# Altium footprint library Wurth_Elektronik_Passive_rev16a.PCBLIB: 810 footprints (part 17 of 51)
Each footprint in its own frame and in the unit in brackets; x right, y up, seen from the top. Pads: shape width x height; smd on the part's side, far side on the other; paste and mask are expansions set on the pad; w line width, h text height; cw(c..) or ccw(c..) is an arc to the next point about the centre after c.
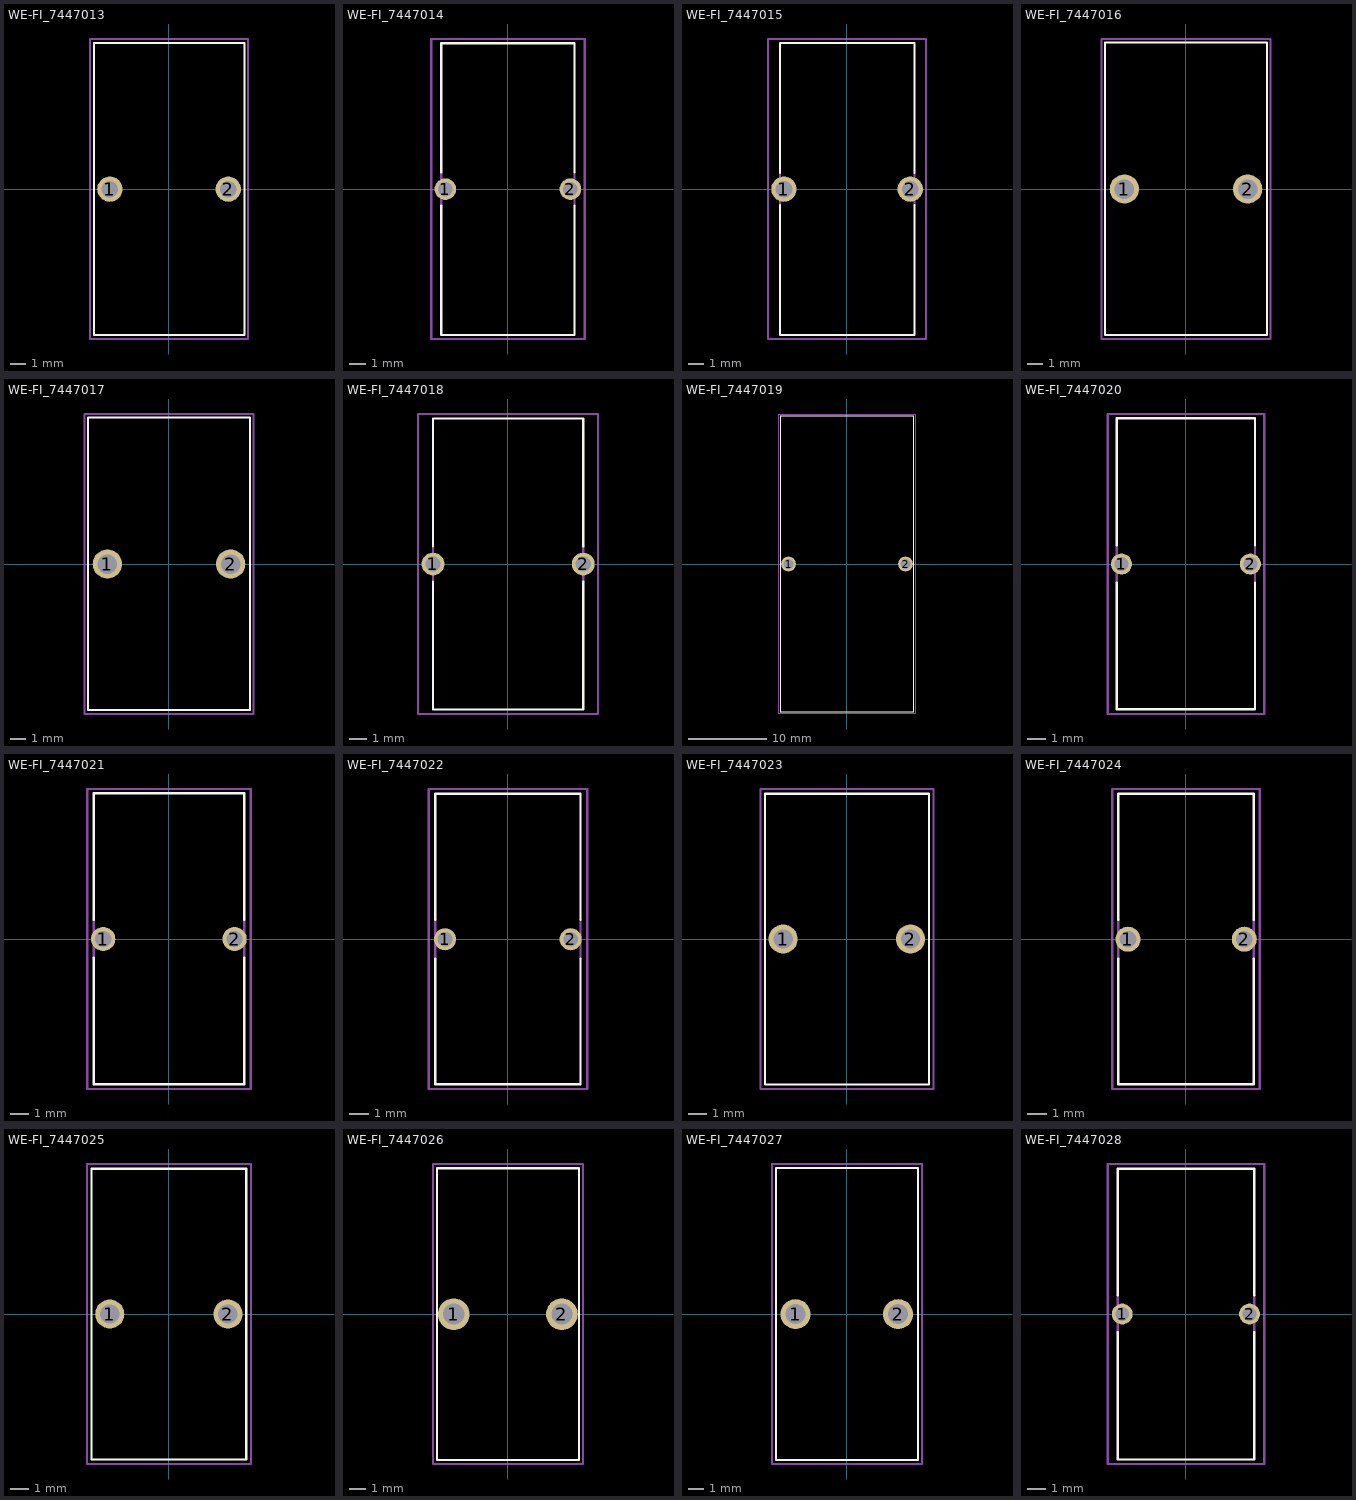
[diagram p16: the footprints below, top view; thin cyan lines are the x and y axes]

## WE-FI_7447013 [mil]
pads (2):
  round 63 hole 42: 1(-147.64,0) 2(148,0)
Top Overlay:
  lines w5: -187.01,-364.17 -187.01,365 188,365 188,-364.17 -187.01,-364.17
Mechanical 2:
  text ">NAME" at -187.01,375 h77.5
Mechanical 4:
  text ">VALUE" at -187.01,-424.02 h77.5
Mechanical 27:
  lines w5: -196.85,-374.02 -196.85,375 197,375 197,-374.02 -196.85,-374.02

## WE-FI_7447014 [mil]
pads (2):
  round 51 hole 34: 1(-147.64,0) 2(148,0)
Top Overlay:
  lines w5: -157.48,-39.37 -157.48,-344.49 158,-344.49 158,-39.37 ; -157.48,40 -157.48,345 158,345 158,40
Mechanical 2:
  text ">NAME" at -157.48,355 h77.5
Mechanical 4:
  text ">VALUE" at -157.48,-404.33 h77.5
Mechanical 16:
  lines w5: -157.48,-39.37 -157.48,40 ; 158,-39.37 158,40
Mechanical 27:
  lines w5: -181.1,-354.33 -181.1,355 182,355 182,-354.33 -181.1,-354.33

## WE-FI_7447015 [mil]
pads (2):
  round 63 hole 42: 1(-157.48,0) 2(158,0)
Top Overlay:
  lines w5: -167.32,-39.37 -167.32,-364.17 168,-364.17 168,-39.37 ; -167.32,40 -167.32,365 168,365 168,40
Mechanical 2:
  text ">NAME" at -157.48,375 h77.5
Mechanical 4:
  text ">VALUE" at -157.48,-424.02 h77.5
Mechanical 16:
  lines w5: -167.32,-39.37 -167.32,40 ; 168,-39.37 168,40
Mechanical 27:
  lines w5: -196.85,-374.02 -196.85,375 197,375 197,-374.02 -196.85,-374.02

## WE-FI_7447016 [mil]
pads (2):
  round 75 hole 50: 1(-157.48,0) 2(158,0)
Top Overlay:
  lines w5: -206.69,-374.02 -206.69,375 207,375 207,-374.02 -206.69,-374.02
Mechanical 2:
  text ">NAME" at -206.69,384 h77.5
Mechanical 4:
  text ">VALUE" at -206.69,-433.86 h77.5
Mechanical 27:
  lines w5: -216.54,-383.86 -216.54,384 217,384 217,-383.86 -216.54,-383.86

## WE-FI_7447017 [mil]
pads (2):
  round 75 hole 50: 1(-157.48,0) 2(158,0)
Top Overlay:
  lines w5: -206.69,-374.02 -206.69,375 207,375 207,-374.02 -206.69,-374.02
Mechanical 2:
  text ">NAME" at -206.69,384 h77.5
Mechanical 4:
  text ">VALUE" at -206.69,-433.86 h77.5
Mechanical 27:
  lines w5: -216.54,-383.86 -216.54,384 217,384 217,-383.86 -216.54,-383.86

## WE-FI_7447018 [mil]
pads (2):
  round 51 hole 34: 1(-167.32,0) 2(168,0)
Top Overlay:
  lines w5: -167.32,-39.37 -167.32,-324.8 168,-324.8 168,-39.37 ; -167.32,40 -167.32,325 168,325 168,40
Mechanical 2:
  text ">NAME" at -167.32,335 h77.5
Mechanical 4:
  text ">VALUE" at -167.32,-384.65 h77.5
Mechanical 16:
  lines w5: -167.32,-39.37 -167.32,40 ; 168,-39.37 168,40
Mechanical 27:
  lines w5: -200.79,-334.65 -200.79,335 201,335 201,-334.65 -200.79,-334.65

## WE-FI_7447019 [mil]
pads (2):
  round 75 hole 50: 1(-295.28,0) 2(296,0)
Top Overlay:
  lines w5: -334.65,-748.03 -334.65,749 335,749 335,-748.03 -334.65,-748.03
Mechanical 2:
  text ">NAME" at -334.65,758 h77.5
Mechanical 4:
  text ">VALUE" at -334.65,-807.87 h77.5
Mechanical 27:
  lines w5: -344.49,-757.87 -344.49,758 345,758 345,-757.87 -344.49,-757.87

## WE-FI_7447020 [mil]
pads (2):
  round 45 hole 30: 1(-137.8,0) 2(138,0)
Top Overlay:
  lines w5: -147.64,-39.37 -147.64,-311.02 148,-311.02 148,-39.37 ; -147.64,40 -147.64,312 148,312 148,40
Mechanical 2:
  text ">NAME" at -147.64,321 h77.5
Mechanical 4:
  text ">VALUE" at -147.64,-370.87 h77.5
Mechanical 16:
  lines w5: -147.64,-39.37 -147.64,40 ; 148,-39.37 148,40
Mechanical 27:
  lines w5: -167.32,-320.87 -167.32,321 168,321 168,-320.87 -167.32,-320.87

## WE-FI_7447021 [mil]
pads (2):
  round 51 hole 34: 1(-137.8,0) 2(138,0)
Top Overlay:
  lines w5: -157.48,-39.37 -157.48,-305.12 158,-305.12 158,-39.37 ; -157.48,40 -157.48,306 158,306 158,40
Mechanical 2:
  text ">NAME" at -157.48,315 h77.5
Mechanical 4:
  text ">VALUE" at -157.48,-364.96 h77.5
Mechanical 16:
  lines w5: -157.48,-39.37 -157.48,40 ; 158,-39.37 158,40
Mechanical 27:
  lines w5: -171.26,-314.96 -171.26,315 172,315 172,-314.96 -171.26,-314.96

## WE-FI_7447022 [mil]
pads (2):
  round 45 hole 30: 1(-127.95,0) 2(128,0)
Top Overlay:
  lines w5: -147.64,-39.37 -147.64,-295.28 148,-295.28 148,-39.37 ; -147.64,40 -147.64,296 148,296 148,40
Mechanical 2:
  text ">NAME" at -147.64,306 h77.5
Mechanical 4:
  text ">VALUE" at -147.64,-355.12 h77.5
Mechanical 16:
  lines w5: -147.64,-39.37 -147.64,40 ; 148,-39.37 148,40
Mechanical 27:
  lines w5: -161.42,-305.12 -161.42,306 162,306 162,-305.12 -161.42,-305.12

## WE-FI_7447023 [mil]
pads (2):
  round 63 hole 42: 1(-137.8,0) 2(138,0)
Top Overlay:
  lines w5: -177.17,-314.96 -177.17,315 178,315 178,-314.96 -177.17,-314.96
Mechanical 2:
  text ">NAME" at -177.17,325 h77.5
Mechanical 4:
  text ">VALUE" at -177.17,-374.8 h77.5
Mechanical 27:
  lines w5: -187.01,-324.8 -187.01,325 188,325 188,-324.8 -187.01,-324.8

## WE-FI_7447024 [mil]
pads (2):
  round 51 hole 34: 1(-118.11,0) 2(119,0)
Top Overlay:
  lines w5: -137.8,-39.37 -137.8,-295.28 138,-295.28 138,-39.37 ; -137.8,40 -137.8,296 138,296 138,40
Mechanical 2:
  text ">NAME" at -137.8,306 h77.5
Mechanical 4:
  text ">VALUE" at -137.8,-355.12 h77.5
Mechanical 16:
  lines w5: -137.8,-39.37 -137.8,40 ; 138,-39.37 138,40
Mechanical 27:
  lines w5: -149.61,-305.12 -149.61,306 150,306 150,-305.12 -149.61,-305.12

## WE-FI_7447025 [mil]
pads (2):
  round 63 hole 42: 1(-127.95,0) 2(128,0)
Top Overlay:
  lines w5: -167.32,-314.96 -167.32,315 168,315 168,-314.96 -167.32,-314.96
Mechanical 2:
  text ">NAME" at -167.32,325 h77.5
Mechanical 4:
  text ">VALUE" at -167.32,-374.8 h77.5
Mechanical 27:
  lines w5: -177.17,-324.8 -177.17,325 178,325 178,-324.8 -177.17,-324.8

## WE-FI_7447026 [mil]
pads (2):
  round 75 hole 50: 1(-127.95,0) 2(128,0)
Top Overlay:
  lines w5: -167.32,-344.49 -167.32,345 168,345 168,-344.49 -167.32,-344.49
Mechanical 2:
  text ">NAME" at -167.32,355 h77.5
Mechanical 4:
  text ">VALUE" at -167.32,-404.33 h77.5
Mechanical 27:
  lines w5: -177.17,-354.33 -177.17,355 178,355 178,-354.33 -177.17,-354.33

## WE-FI_7447027 [mil]
pads (2):
  round 75 hole 50: 1(-127.95,0) 2(128,0)
Top Overlay:
  lines w5: -177.17,-364.17 -177.17,365 178,365 178,-364.17 -177.17,-364.17
Mechanical 2:
  text ">NAME" at -177.17,375 h77.5
Mechanical 4:
  text ">VALUE" at -177.17,-424.02 h77.5
Mechanical 27:
  lines w5: -187.01,-374.02 -187.01,375 188,375 188,-374.02 -187.01,-374.02

## WE-FI_7447028 [mil]
pads (2):
  round 45 hole 30: 1(-137.8,0) 2(138,0)
Top Overlay:
  lines w5: -147.64,-39.37 -147.64,-314.96 148,-314.96 148,-39.37 ; -147.64,40 -147.64,315 148,315 148,40
Mechanical 2:
  text ">NAME" at -147.64,325 h77.5
Mechanical 4:
  text ">VALUE" at -147.64,-374.8 h77.5
Mechanical 16:
  lines w5: -147.64,-39.37 -147.64,40 ; 148,-39.37 148,40
Mechanical 27:
  lines w5: -169.29,-324.8 -169.29,325 170,325 170,-324.8 -169.29,-324.8